# EAGLE library part A3909 (library kmod-testing)
A3909 Dual Fuul Bridge Motor Driver http://www.allegromicro.com/~/media/Files/Datasheets/A3909-Datasheet.pdf
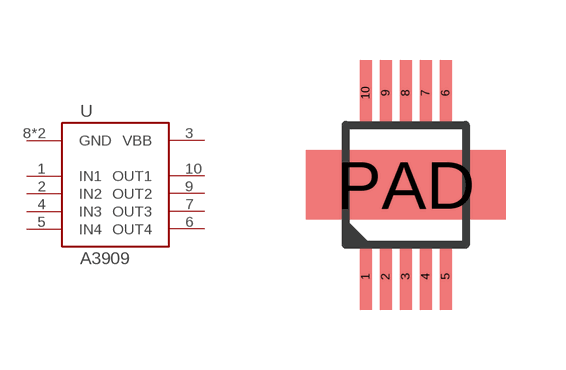
[diagram p18: symbol with the pads of MSOP10; footprint MSOP10]

Designator prefix -

## A3909LY  [MSOP10]
1  IN1
2  IN2
3  VBB  in
4  IN3
5  IN4
6  OUT4  out
7  OUT3  out
8  GND  in
9  OUT2  out
10  OUT1  out
PAD  GND  in

## Footprint MSOP10 (pad centres in mm)
10-pin, 0.5mm-pitch DFP with exposed pad From http://www.allegromicro.com/~/media/Files/Datasheets/A3909-Datasheet.pdf I made the exposed pad stick out though
smd 0.3 x 1.65: 1 -1,-2.3; 2 -0.5,-2.3; 3 0,-2.3; 4 0.5,-2.3; 5 1,-2.3; 6 1,2.3; 7 0.5,2.3; 8 0,2.3; 9 -0.5,2.3; 10 -1,2.3
smd 5 x 1.73: PAD 0,0